# EAGLE library part UNTITLED_BQ24171 (library lademodul)
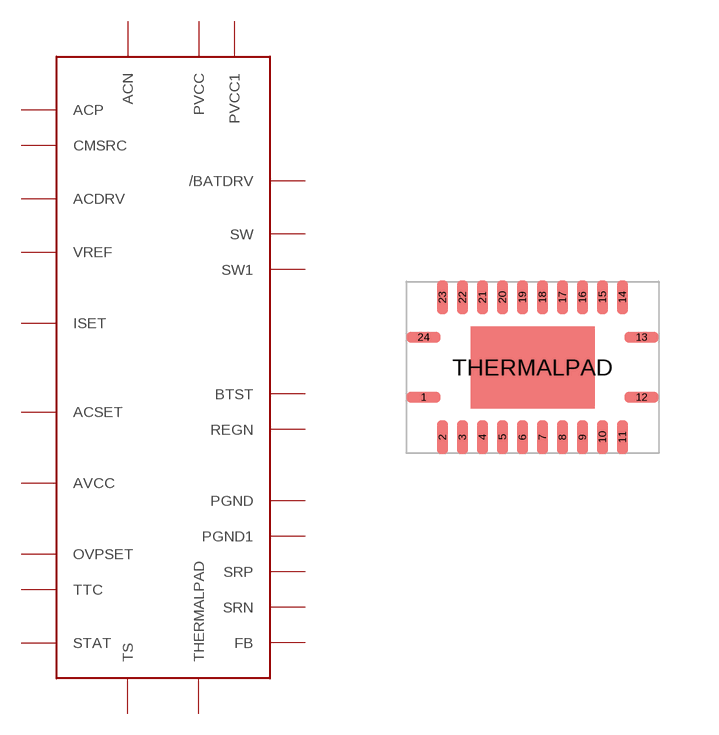
[diagram p0: symbol with the pads of UNTITLED_R-PVQFN-N24; footprint UNTITLED_R-PVQFN-N24]

Designator prefix -

## UNTITLED_BQ24171  [UNTITLED_R-PVQFN-N24]
1  SW
2  PVCC
3  PVCC1
4  AVCC
5  ACN
6  ACP
7  CMSRC
8  ACDRV
9  STAT
10  TS
11  TTC
12  VREF
13  ISET
14  FB
15  SRN
16  SRP
17  ACSET
18  OVPSET
19  /BATDRV
20  REGN
21  BTST
22  PGND
23  PGND1
24  SW1
THERMALPAD  THERMALPAD

## Footprint UNTITLED_R-PVQFN-N24 (pad centres in mm)
smd 0.85 x 0.28: 1 -2.725,-0.75; 12 2.725,-0.75; 13 2.725,0.75; 24 -2.725,0.75
smd 0.28 x 0.85: 2 -2.25,-1.75; 3 -1.75,-1.75; 4 -1.25,-1.75; 5 -0.75,-1.75; 6 -0.25,-1.75; 7 0.25,-1.75; 8 0.75,-1.75; 9 1.25,-1.75; 10 1.75,-1.75; 11 2.25,-1.75; 14 2.25,1.75; 15 1.75,1.75; 16 1.25,1.75; 17 0.75,1.75; 18 0.25,1.75; 19 -0.25,1.75; 20 -0.75,1.75; 21 -1.25,1.75; 22 -1.75,1.75; 23 -2.25,1.75
smd 3.1 x 2.05: THERMALPAD 0,0